# Altium footprint library GDT.PcbLib: 20 footprints (part 2 of 2)
Each footprint in its own frame and in the unit in brackets; x right, y up, seen from the top. Pads: shape width x height; smd on the part's side, far side on the other; paste and mask are expansions set on the pad; w line width, h text height; cw(c..) or ccw(c..) is an arc to the next point about the centre after c.
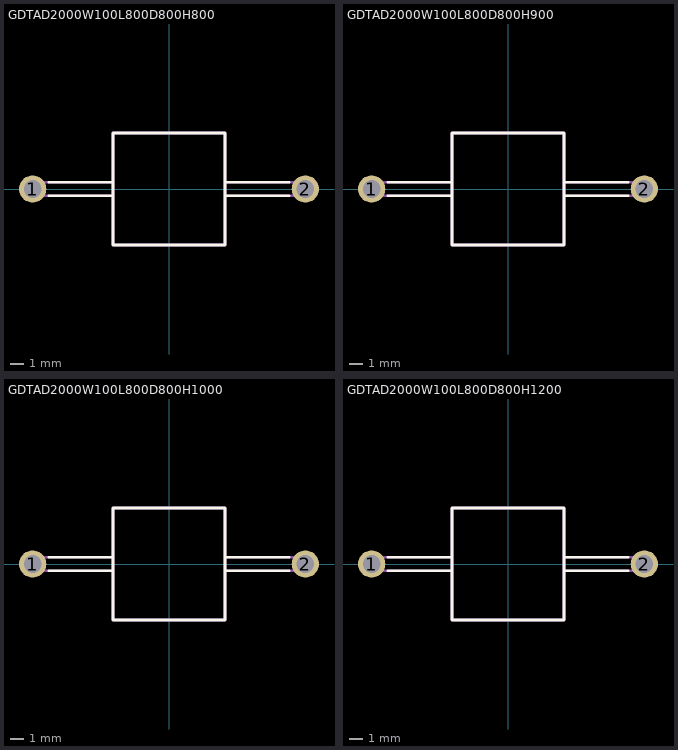
[diagram p1: the footprints below, top view; thin cyan lines are the x and y axes]

## GDTAD2000W100L800D800H800 [mm]
pads (2):
  round 2 hole 1.3: 1(-10,0) 2(10,0)
Top Overlay:
  lines w0.2: -8.8,-0.5 -4.1,-0.5 ; -8.8,0.5 -4.1,0.5 ; 4.1,-0.5 8.8,-0.5 ; 4.1,0.5 8.8,0.5 ; -4.1,-4.1 -4.1,4.1 4.1,4.1 4.1,-4.1 -4.1,-4.1
Top Assembly:
  lines w0.2: -4.1,-0.5 -10,-0.5 cw(c-10,0) -10.5,0 cw(c-10,0) -10,0.5 -4.1,0.5 ; 4.1,-0.5 10,-0.5 ccw(c10,0) 10.5,0 ccw(c10,0) 10,0.5 4.1,0.5 ; -4.1,-4.1 -4.1,4.1 4.1,4.1 4.1,-4.1 -4.1,-4.1
3D body: height 8.1, standoff -0.1, extent -3.5,-4.1 3.5,4.1
3D body: height 8.1, standoff -0.1, extent 3.5,-4.1 4.1,4.1
3D body: height 8.1, standoff -0.1, extent -4.1,-4.1 -3.5,4.1
3D body: height 4.5, standoff 3.5, extent 4.1,-0.5 10,0.5
3D body: height 4.5, standoff 3.5, extent 9.5,-0.5 10.5,0.5
3D body: height 4, standoff -3, extent 9.5,-0.5 10.5,0.5
3D body: height 4.5, standoff 3.5, extent -10.5,-0.5 -9.5,0.5
3D body: height 4.5, standoff 3.5, extent -10,-0.5 -4.1,0.5
3D body: height 4, standoff -3, extent -10.5,-0.5 -9.5,0.5

## GDTAD2000W100L800D800H900 [mm]
pads (2):
  round 2 hole 1.3: 1(-10,0) 2(10,0)
Top Overlay:
  lines w0.2: -8.8,-0.5 -4.1,-0.5 ; -8.8,0.5 -4.1,0.5 ; 4.1,-0.5 8.8,-0.5 ; 4.1,0.5 8.8,0.5 ; -4.1,-4.1 -4.1,4.1 4.1,4.1 4.1,-4.1 -4.1,-4.1
Top Assembly:
  lines w0.2: -4.1,-0.5 -10,-0.5 cw(c-10,0) -10.5,0 cw(c-10,0) -10,0.5 -4.1,0.5 ; 4.1,-0.5 10,-0.5 ccw(c10,0) 10.5,0 ccw(c10,0) 10,0.5 4.1,0.5 ; -4.1,-4.1 -4.1,4.1 4.1,4.1 4.1,-4.1 -4.1,-4.1
3D body: height 5, standoff -3, extent -10.5,-0.5 -9.5,0.5
3D body: height 5.5, standoff 4.5, extent -10.5,-0.5 -9.5,0.5
3D body: height 5, standoff -3, extent 9.5,-0.5 10.5,0.5
3D body: height 5.5, standoff 4.5, extent 9.5,-0.5 10.5,0.5
3D body: height 5.5, standoff 4.5, extent 4.1,-0.5 10,0.5
3D body: height 9.1, standoff 0.9, extent -3.5,-4.1 3.5,4.1
3D body: height 9.1, standoff 0.9, extent 3.5,-4.1 4.1,4.1
3D body: height 9.1, standoff 0.9, extent -4.1,-4.1 -3.5,4.1
3D body: height 5.5, standoff 4.5, extent -10,-0.5 -4.1,0.5

## GDTAD2000W100L800D800H1000 [mm]
pads (2):
  round 2 hole 1.3: 1(-10,0) 2(10,0)
Top Overlay:
  lines w0.2: -8.8,-0.5 -4.1,-0.5 ; -8.8,0.5 -4.1,0.5 ; 4.1,-0.5 8.8,-0.5 ; 4.1,0.5 8.8,0.5 ; -4.1,-4.1 4.1,-4.1 4.1,4.1 -4.1,4.1 -4.1,-4.1
Top Assembly:
  lines w0.2: -4.1,-0.5 -10,-0.5 cw(c-10,0) -10.5,0 cw(c-10,0) -10,0.5 -4.1,0.5 ; 4.1,-0.5 10,-0.5 ccw(c10,0) 10.5,0 ccw(c10,0) 10,0.5 4.1,0.5 ; -4.1,-4.1 4.1,-4.1 4.1,4.1 -4.1,4.1 -4.1,-4.1
3D body: height 6.5, standoff 5.5, extent -10,-0.5 -4.1,0.5
3D body: height 10.1, standoff 1.9, extent -4.1,-4.1 -3.5,4.1
3D body: height 10.1, standoff 1.9, extent 3.5,-4.1 4.1,4.1
3D body: height 10.1, standoff 1.9, extent -3.5,-4.1 3.5,4.1
3D body: height 6.5, standoff 5.5, extent 4.1,-0.5 10,0.5
3D body: height 6.5, standoff 5.5, extent 9.5,-0.5 10.5,0.5
3D body: height 6, standoff -3, extent 9.5,-0.5 10.5,0.5
3D body: height 6.5, standoff 5.5, extent -10.5,-0.5 -9.5,0.5
3D body: height 6, standoff -3, extent -10.5,-0.5 -9.5,0.5

## GDTAD2000W100L800D800H1200 [mm]
pads (2):
  round 2 hole 1.3: 1(-10,0) 2(10,0)
Top Overlay:
  lines w0.2: -8.8,-0.5 -4.1,-0.5 ; -8.8,0.5 -4.1,0.5 ; 4.1,-0.5 8.8,-0.5 ; 4.1,0.5 8.8,0.5 ; -4.1,-4.1 -4.1,4.1 4.1,4.1 4.1,-4.1 -4.1,-4.1
Top Assembly:
  lines w0.2: -4.1,-0.5 -10,-0.5 cw(c-10,0) -10.5,0 cw(c-10,0) -10,0.5 -4.1,0.5 ; 4.1,-0.5 10,-0.5 ccw(c10,0) 10.5,0 ccw(c10,0) 10,0.5 4.1,0.5 ; -4.1,-4.1 -4.1,4.1 4.1,4.1 4.1,-4.1 -4.1,-4.1
3D body: height 8, standoff -3, extent -10.5,-0.5 -9.5,0.5
3D body: height 8.5, standoff 7.5, extent -10.5,-0.5 -9.5,0.5
3D body: height 8, standoff -3, extent 9.5,-0.5 10.5,0.5
3D body: height 8.5, standoff 7.5, extent 9.5,-0.5 10.5,0.5
3D body: height 8.5, standoff 7.5, extent 4.1,-0.5 10,0.5
3D body: height 12.1, standoff 3.9, extent -3.5,-4.1 3.5,4.1
3D body: height 12.1, standoff 3.9, extent 3.5,-4.1 4.1,4.1
3D body: height 12.1, standoff 3.9, extent -4.1,-4.1 -3.5,4.1
3D body: height 8.5, standoff 7.5, extent -10,-0.5 -4.1,0.5